# Altium footprint library A_Passive.PcbLib: 83 footprints (part 6 of 6)
Each footprint in its own frame and in the unit in brackets; x right, y up, seen from the top. Pads: shape width x height; smd on the part's side, far side on the other; paste and mask are expansions set on the pad; w line width, h text height; cw(c..) or ccw(c..) is an arc to the next point about the centre after c.
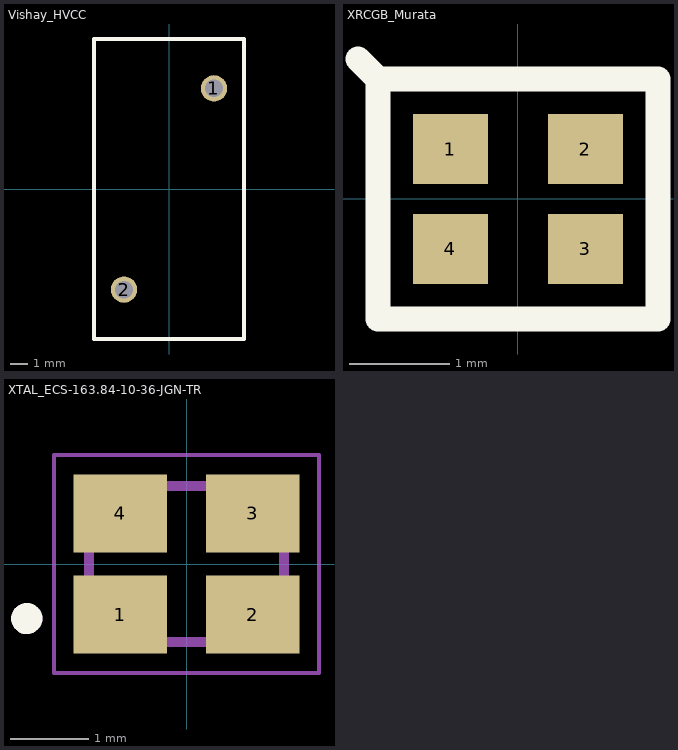
[diagram p5: the footprints below, top view; thin cyan lines are the x and y axes]

## Vishay_HVCC [mm]
pads (2):
  round 1.5 hole 1 unplated: 1(2.55,5.7) 2(-2.55,-5.7)
Top Overlay:
  lines w0.2: -4.25,-8.5 4.25,-8.5 ; -4.25,-8.5 -4.25,-8.5 ; -4.25,-8.5 -4.25,8.5 4.25,8.5 4.25,-8.5 ; 4.25,-8.5 4.25,-8.5
3D body "HVCC153Y6P102MEAX.STP": height 19.5, standoff -25.5, extent -3.75,-7.498 3.75,7.496

## XRCGB_Murata [mm] "Crystal"
pads (4):
  rect 0.75x0.7 smd: 1(-0.675,0.5) 2(0.675,0.5) 3(0.675,-0.5) 4(-0.675,-0.5)
Top Overlay:
  lines w0.254: -1.6,1.4 -1.4,1.2 ; -1.4,1.2 -1.4,-1.2 1.4,-1.2 1.4,1.2 -1.4,1.2
3D body "XRCGB27M120F3A00R0--3DModel-STEP-56544.STEP": height 0.71, standoff 0, extent -1,-0.8 1,0.8

## XTAL_ECS-163.84-10-36-JGN-TR [mm]
pads (4):
  rect 1.2x1 smd: 1(-0.85,-0.65) 2(0.85,-0.65) 3(0.85,0.65) 4(-0.85,0.65)
Top Overlay:
  circle w0.2: c-2.05,-0.7 r0.1
Mechanical 13:
  circle w0.2: c-2.05,-0.7 r0.1
  lines w0.127: -1.25,-1 -1.25,1 1.25,1 1.25,-1 -1.25,-1
Mechanical 15:
  lines w0.05: -1.7,-1.4 -1.7,1.4 1.7,1.4 1.7,-1.4 -1.7,-1.4